# EAGLE library part SN74LVC1G123DCTR (library TMC2660-Eval_v30)
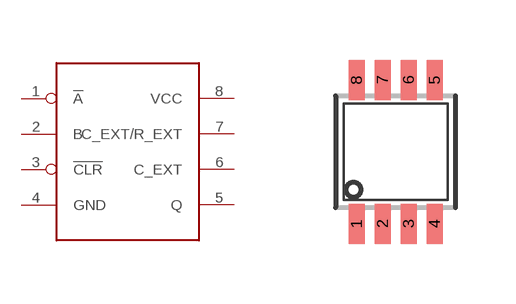
[diagram p1: symbol with the pads of SN74LVC1G123DCTR; footprint SN74LVC1G123DCTR]

Designator prefix -

## SN74LVC1G123DCTR  [SN74LVC1G123DCTR]
1  !A
2  B
3  !CLR
4  GND
5  Q
6  C_EXT
7  C_EXT/R_EXT
8  VCC

## Footprint SN74LVC1G123DCTR (pad centres in mm)
smd 0.4 x 1: 1 -0.975,-1.8; 2 -0.325,-1.8; 3 0.325,-1.8; 4 0.975,-1.8; 5 0.975,1.8; 6 0.325,1.8; 7 -0.325,1.8; 8 -0.975,1.8